# Altium integrated library ST Audio CD-Player Circuit.IntLib: 1 symbol
Pins are listed as number, name and electrical type; pins without a type are passive.

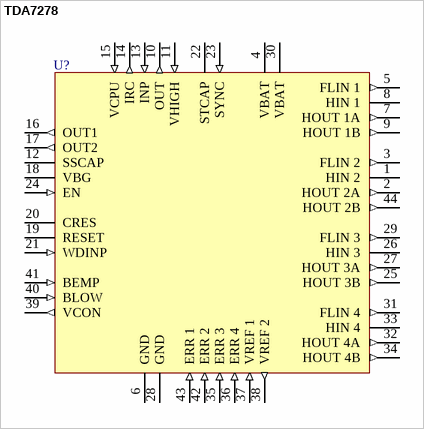
[diagram p0: symbol TDA7278]

## TDA7278
designator U?
High-Efficiency CD Actuator Driver; Published: 24-Aug-2001; LatestRevisionDate: 6-Jun-2005; LatestRevisionNote: Stylized 3D Model Added.; DatasheetDocument: Mar-1997; PackageDocument: Nov-1999; PackageReference: PQFP44A; Publisher: Altium Limited; Code_JEDEC: MS-022-AB; Code_IPC: QFP10X10-44; ComponentLink1Description: Manufacturer Link; ComponentLink1URL: http://www.st.com/; ComponentLink2Description: Datasheet; ComponentLink2URL: http://www.st.com/stonline/products/literature/ds/1566/tda7278.pdf
footprint PQFP44A (QFP; 44 Leads; Body 10 x 10 mm; Pitch 0.8 mm)
3D model TDA7278-PQFP44 (QFP; 44 Leads; Body 10 x 10 mm; Pitch 0.8 mm)
pins: 1 HIN 2 (power), 2 HOUT 2A (out), 3 FLIN 2 (out), 4 VBAT (power), 5 FLIN 1 (out), 6 GND (power), 7 HOUT 1A (out), 8 HIN 1 (power), 9 HOUT 1B (out), 10 OUT (out), 11 VHIGH (in), 12 SSCAP, 13 INP (in), 14 IRC (out), 15 VCPU (in), 16 OUT1 (out), 17 OUT2 (out), 18 VBG, 19 RESET (oc), 20 CRES, 21 WDINP (in), 22 STCAP, 23 SYNC (in), 24 EN (in), 25 HOUT 3B (out), 26 HIN 3 (power), 27 HOUT 3A (out), 28 GND (power), 29 FLIN 3 (out), 30 VBAT (power), 31 FLIN 4 (out), 32 HOUT 4A (out), 33 HIN 4 (power), 34 HOUT 4B (out), 35 ERR 3 (in), 36 ERR 4 (in), 37 VREF 1 (in), 38 VREF 2 (out), 39 VCON (out), 40 BLOW (in), 41 BEMP (in), 42 ERR 2 (in), 43 ERR 1 (in), 44 HOUT 2B (out)